# Altium schematic symbol library quartz.SchLib: 15 symbols
Pins are listed as number, name and electrical type; pins without a type are passive.

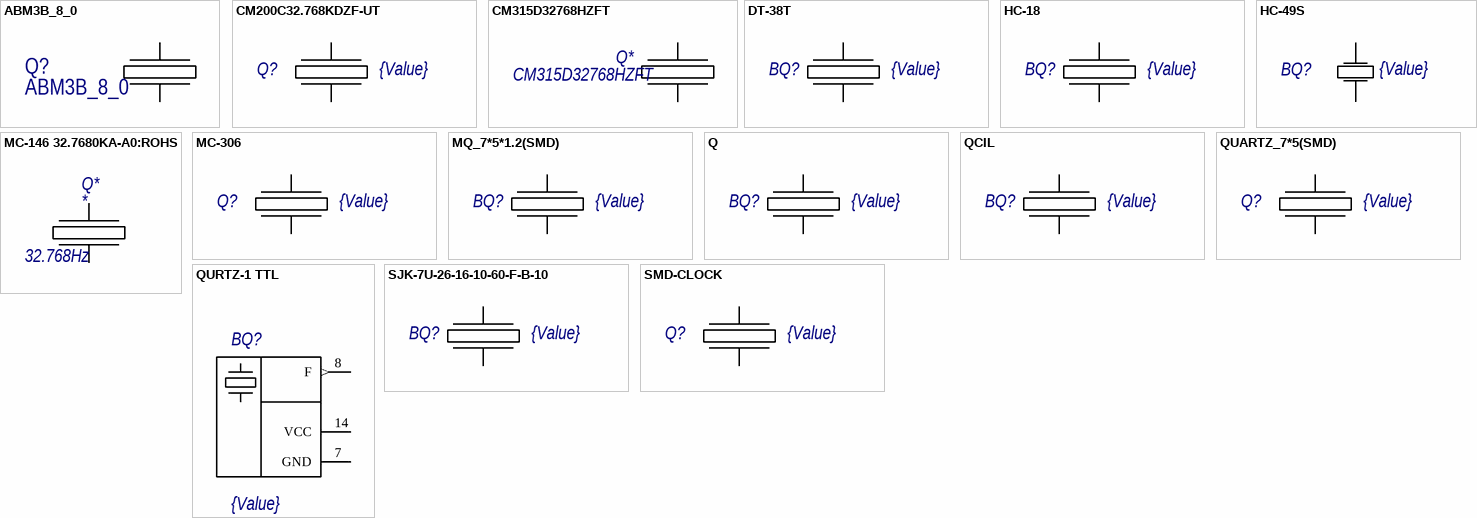
[diagram p0: symbols ABM3B_8_0 to SMD-CLOCK]

## ABM3B_8_0
designator Q?
footprint ABM3B_8_0
pins: 1 A0, 3 B0

## CM200C32.768KDZF-UT
designator Q?  value {Value}  (hidden comment: *)
footprint SMD-CLOCK
pins: 1 A0, 2 hidden, 3 hidden, 4 B0

## CM315D32768HZFT
designator Q*
Value: Value
footprint CM315D32768HZFT
pins: 1 A0, 2 B0

## DT-38T
designator BQ?  value {Value}  (hidden comment: *)
footprint DT-38
pins: 1 A0, 2 B0

## HC-18
designator BQ?  value {Value}  (hidden comment: *)
footprint HC-18
pins: 1 A0, 2 B0

## HC-49S
designator BQ?  value {Value}  (hidden comment: *)
footprint HC-49S
pins: 1 A0, 2 B0

## MC-146 32.7680KA-A0:ROHS
designator Q*  value 32.768Hz
footprint MC-146
pins: 1 A0, 4 B0

## MC-306
designator Q?  value {Value}  (hidden comment: *)
footprint SMD-CLOCK
pins: 1 A0, 2 GND (power) hidden, 3 GND (power) hidden, 4 B0

## MQ_7*5*1.2(SMD)
designator BQ?  value {Value}  (hidden comment: *)
footprint 5*7
pins: 1 GND (power) hidden, 2 A0, 3 GND (power) hidden, 4 B0

## Q
designator BQ?  value {Value}  (hidden comment: *)
footprint HC-49U
pins: 1 A0, 2 B0

## QCIL
designator BQ?  value {Value}  (hidden comment: *)
footprint QCIL
pins: 1 A0, 2 B0

## QUARTZ_7*5(SMD)
designator Q?  value {Value}  (hidden comment: *)
footprint 5*7
pins: 1 A0, 2 hidden, 3 B0, 4 hidden

## QURTZ-1 TTL
designator BQ?  value {Value}  (hidden comment: *)
Pack: HC-49U
footprint DIP14-4Q_QURTZ-1 TTL(Primary)
pins: 1 hidden, 7 GND (power), 8 F (out), 14 VCC (power)

## SJK-7U-26-16-10-60-F-B-10
designator BQ?  value {Value}  (hidden comment: *)
footprint SJK-7U_SJK-7U-26-16-10-60-F-B-10(Primary)
pins: 2 A0, 4 B0

## SMD-CLOCK
designator Q?  value {Value}  (hidden comment: *)
footprint SMD-CLOCK
pins: 1 A0, 2 GND (power) hidden, 3 GND (power) hidden, 4 B0